# Altium footprint library SHEET23.PcbLib: 47 footprints (part 1 of 3)
Each footprint in its own frame and in the unit in brackets; x right, y up, seen from the top. Pads: shape width x height; smd on the part's side, far side on the other; paste and mask are expansions set on the pad; w line width, h text height; cw(c..) or ccw(c..) is an arc to the next point about the centre after c.
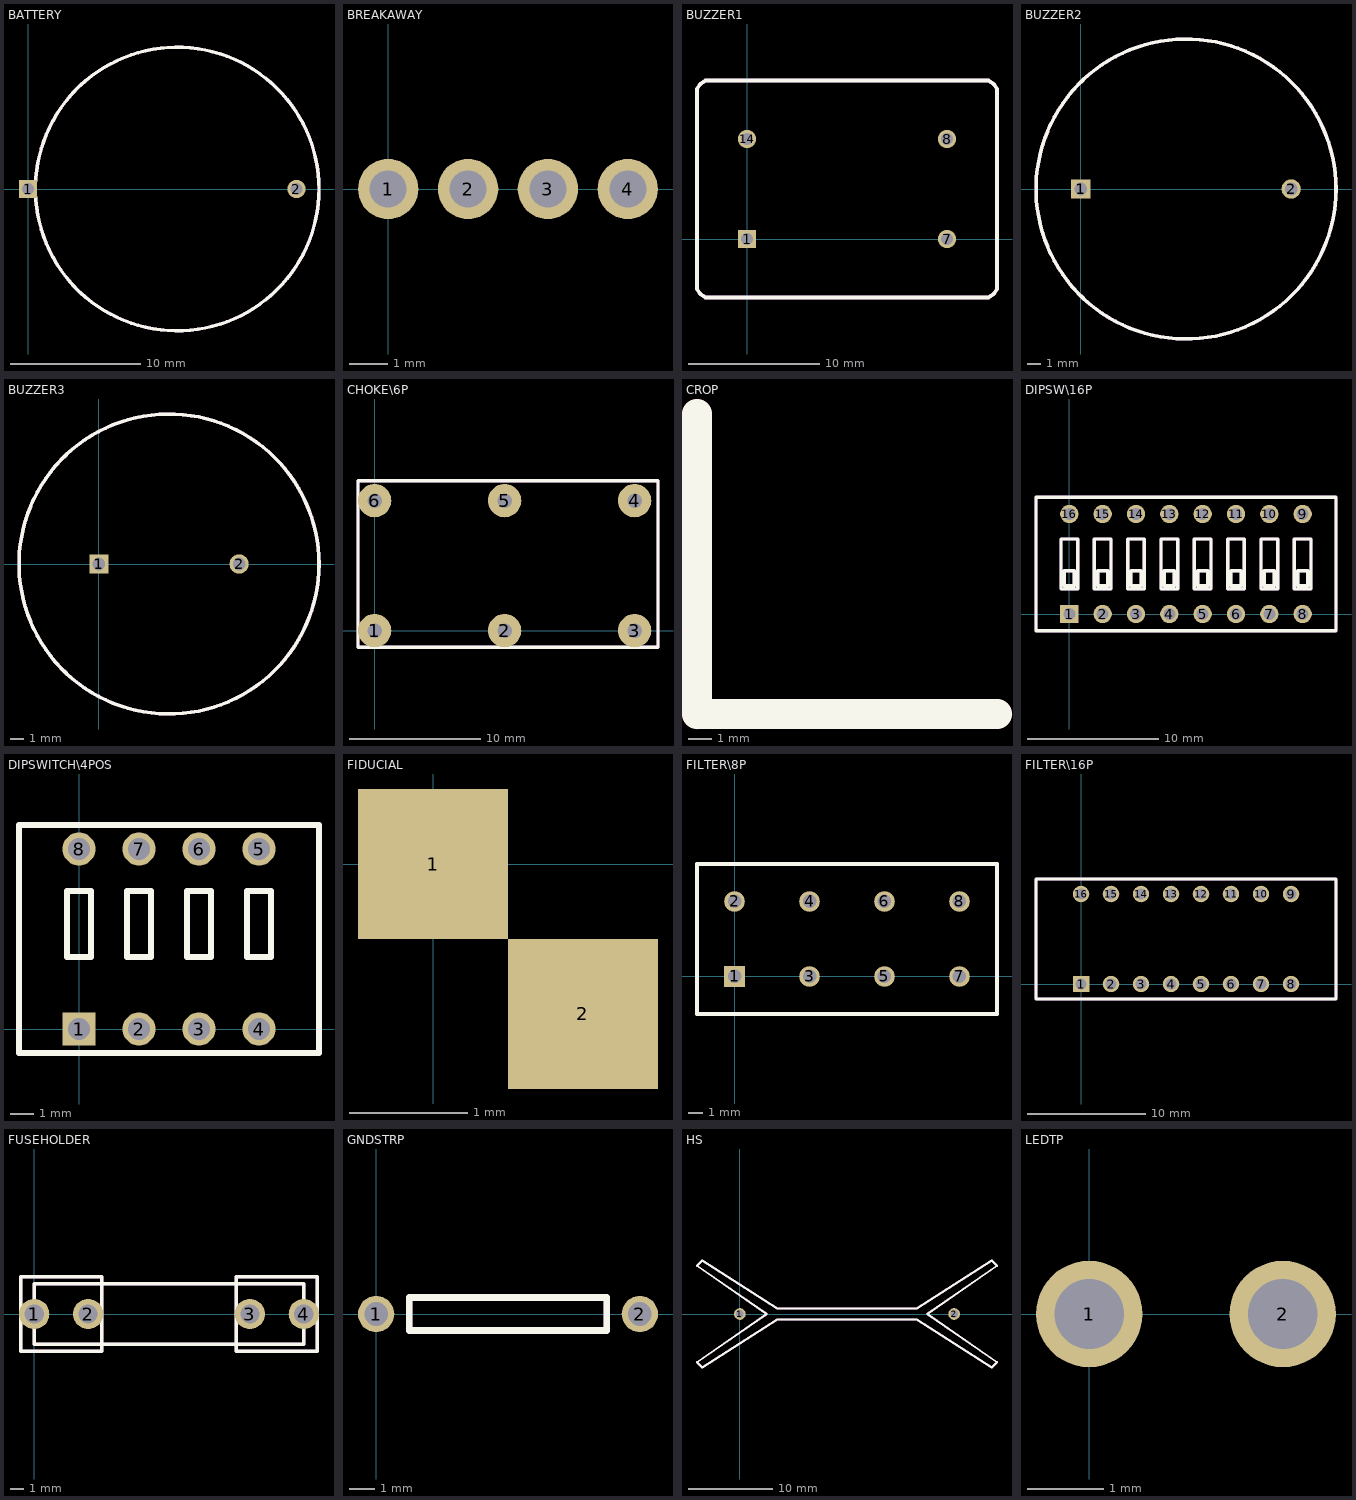
[diagram p0: the footprints below, top view; thin cyan lines are the x and y axes]

## BATTERY [mil]
pads (2):
  rect 55x55 / inner round 55 / far side round 55 hole 36: 1(0,0)
  round 55 hole 36: 2(810,0)
Top Overlay:
  circle w10: c450,0 r427.93
  text ".Designator" at -250,-150 h60
Mechanical 1:
  circle w10: c450,0 r427.93
  text ".Designator" at -225,75 h60
  text ".Pattern" at 0,-550 h60

## BREAKAWAY [mil]
pads (4):
  round 62 hole 38: 1(0,0) 2(82,0) 3(164,0) 4(246,0)
Top Overlay:
  text ".Designator" at -125,75 h60
Mechanical 1:
  text ".Designator" at -125,75 h60
  text ".Pattern" at 0,-200 h60

## BUZZER1 [mil]
pads (4):
  rect 55x55 / inner round 55 / far side round 55 hole 36: 1(0,0)
  round 55 hole 36: 7(600,0) 8(600,300) 14(0,300)
Top Overlay:
  lines w12: -150,-150 -140,-165 -125,-175 725,-175 740,-165 750,-150 750,450 740,465 725,475 -125,475 -140,465 -150,450 -150,-150
  text ".Designator" at -100,200 h60
Mechanical 1:
  lines w12: -150,-150 -150,450 -140,465 -125,475 725,475 740,465 750,450 750,-150 740,-165 725,-175 -125,-175 -140,-165 -150,-150
  text ".Designator" at -100,200 h60
  text ".Pattern" at 0,-300 h60

## BUZZER2 [mil]
pads (2):
  rect 55x55 / inner round 55 / far side round 55 hole 36: 1(0,0)
  round 55 hole 36: 2(600,0)
Top Overlay:
  circle w10: c300,0 r427.93
  text ".Designator" at -250,-150 h60
Mechanical 1:
  circle w10: c300,0 r427.93
  text ".Pattern" at 0,-550 h60
  text ".Designator" at -325,650 h60

## BUZZER3 [mil]
pads (2):
  rect 55x55 / inner round 55 / far side round 55 hole 36: 1(0,0)
  round 55 hole 36: 2(400,0)
Top Overlay:
  circle w10: c200,0 r427.93
  text ".Designator" at -150,-350 h60
Mechanical 1:
  circle w10: c200,0 r427.93
  text ".Designator" at -125,175 h60
  text ".Pattern" at 0,-550 h60

## CHOKE\6P [mil]
pads (6):
  round 100 hole 43: 1(0,0) 2(390,0) 3(780,0) 4(780,390) 5(390,390) 6(0,390)
Top Overlay:
  lines w10: -50,-50 -50,450 850,450 850,-50 -50,-50
  text ".Designator" at -100,125 h60
Mechanical 1:
  lines w10: -50,-50 -50,450 850,450 850,-50 -50,-50
  text ".Designator" at -100,125 h60
  text ".Pattern" at 0,-200 h60

## CROP [mil]
pads (1):
  round 0 all layers, no hole: 1(0,0)
Top Layer:
  lines w50: 0,500 0,0 500,0
Mid-Layer 1:
  lines w50: 0,500 0,0 500,0
Bottom Layer:
  lines w50: 0,500 0,0 500,0
Top Overlay:
  lines w50: 0,500 0,0 500,0
  text ".Designator" at 200,425 h60
Bottom Overlay:
  lines w50: 0,500 0,0 500,0
Top Paste:
  lines w50: 0,500 0,0 500,0
Bottom Paste:
  lines w50: 0,500 0,0 500,0
Top Solder:
  lines w50: 0,500 0,0 500,0
Bottom Solder:
  lines w50: 0,500 0,0 500,0
Internal Plane 1:
  lines w50: 0,500 0,0 500,0
Drill Guide:
  text ".Pattern" at 0,575 h60
Mechanical 1:
  text ".Designator" at 75,150 h60

## DIPSW\16P [mil]
pads (16):
  rect 55x55 / inner round 55 / far side round 55 hole 36: 1(0,0)
  round 55 hole 36: 2(100,0) 3(200,0) 4(300,0) 5(400,0) 6(500,0) 7(600,0) 8(700,0) 9(700,300) 10(600,300) 11(500,300) 12(400,300) 13(300,300) 14(200,300) 15(100,300) 16(0,300)
Top Overlay:
  lines w10: -100,-50 800,-50 800,350 -100,350 -100,-50 ; -25,75 -25,225 25,225 25,75 -25,75 ; -15,85 -15,130 15,130 15,85 -15,85 ; 75,75 75,225 125,225 125,75 75,75 ; 85,85 85,130 115,130 115,85 85,85 ; 175,75 175,225 225,225 225,75 175,75 ; 185,85 185,130 215,130 215,85 185,85 ; 275,75 325,75 325,225 275,225 275,75 ; 285,85 315,85 315,130 285,130 285,85 ; 375,75 375,225 425,225 425,75 375,75 ; 385,85 385,130 415,130 415,85 385,85 ; 475,75 525,75 525,225 475,225 475,75 ; 485,85 485,130 515,130 515,85 485,85 ; 575,75 625,75 625,225 575,225 575,75 ; 585,85 615,85 615,130 585,130 585,85 ; 675,75 725,75 725,225 675,225 675,75 ; 685,85 715,85 715,130 685,130 685,85
  text ".Designator" at -250,-175 h60
Mechanical 1:
  lines w10: -15,85 -15,130 ; -15,85 15,85 ; -15,85 -15,130 ; -15,85 15,85 ; -15,130 15,130 ; -15,130 15,130 ; 15,85 15,130 ; 15,85 15,130 ; -100,-50 -100,350 800,350 800,-50 -100,-50 ; -25,75 -25,225 25,225 25,75 -25,75 ; 75,75 75,225 125,225 125,75 75,75 ; 85,85 85,130 115,130 115,85 85,85 ; 175,75 175,225 225,225 225,75 175,75 ; 185,85 185,130 215,130 215,85 185,85 ; 275,75 275,225 325,225 325,75 275,75 ; 285,85 285,130 315,130 315,85 285,85 ; 375,75 375,225 425,225 425,75 375,75 ; 385,85 385,130 415,130 415,85 385,85 ; 475,75 475,225 525,225 525,75 475,75 ; 485,85 485,130 515,130 515,85 485,85 ; 575,75 575,225 625,225 625,75 575,75 ; 585,85 585,130 615,130 615,85 585,85 ; 675,75 675,225 725,225 725,75 675,75 ; 685,85 685,130 715,130 715,85 685,85
  text ".Designator" at -250,25 h60
  text ".Pattern" at 0,-200 h60

## DIPSWITCH\4POS [mil]
pads (8):
  rect 55x55 / inner round 55 / far side round 55 hole 36: 1(0,0)
  round 55 hole 36: 2(100,0) 3(200,0) 4(300,0) 5(300,300) 6(200,300) 7(100,300) 8(0,300)
Top Overlay:
  lines w10: -100,-40 -100,340 400,340 400,-40 -100,-40 ; -20,120 20,120 20,230 -20,230 -20,120 ; 80,120 120,120 120,230 80,230 80,120 ; 180,120 220,120 220,230 180,230 180,120 ; 280,120 320,120 320,230 280,230 280,120
  text ".Designator" at -250,-175 h60
Mechanical 1:
  lines w10: -100,-40 -100,340 400,340 400,-40 -100,-40 ; -20,120 -20,230 20,230 20,120 -20,120 ; 80,120 80,230 120,230 120,120 80,120 ; 180,120 180,230 220,230 220,120 180,120 ; 280,120 280,230 320,230 320,120 280,120
  text ".Designator" at -250,250 h60
  text ".Pattern" at 0,-175 h60

## FIDUCIAL [mil]
pads (2):
  rect 50x50 / inner round 60 / far side rect 50x50 all layers, no hole: 1(0,0) 2(50,-50)
Top Overlay:
  text ".Designator" at 0,100 h60
Mechanical 1:
  text ".Designator" at 0,100 h60
  text ".Pattern" at -100,-200 h60

## FILTER\8P [mil]
pads (8):
  rect 55x55 / inner round 55 / far side round 55 hole 36: 1(0,0)
  round 55 hole 36: 2(0,200) 3(200,0) 4(200,200) 5(400,0) 6(400,200) 7(600,0) 8(600,200)
Top Overlay:
  lines w10: -100,-100 700,-100 700,300 -100,300 -100,-100
  text ".Designator" at -25,50 h60
Mechanical 1:
  lines w10: -100,-100 -100,300 700,300 700,-100 -100,-100
  text ".Designator" at -25,50 h60
  text ".Pattern" at 0,-225 h60

## FILTER\16P [mil]
pads (16):
  rect 55x55 / inner round 55 / far side round 55 hole 36: 1(0,0)
  round 55 hole 36: 2(100,0) 3(200,0) 4(300,0) 5(400,0) 6(500,0) 7(600,0) 8(700,0) 9(700,300) 10(600,300) 11(500,300) 12(400,300) 13(300,300) 14(200,300) 15(100,300) 16(0,300)
Top Overlay:
  lines w10: -150,-50 850,-50 850,350 -150,350 -150,-50
  text ".Designator" at -75,75 h60
Mechanical 1:
  lines w10: -150,-50 850,-50 850,350 -150,350 -150,-50
  text ".Pattern" at 0,-225 h60
  text ".Designator" at -75,75 h60

## FUSEHOLDER [mil]
pads (4):
  round 90 hole 57: 1(0,0) 2(160,0) 3(640,0) 4(800,0)
Top Overlay:
  lines w10: -40,-110 -40,110 200,110 200,-110 -40,-110 ; 0,-90 800,-90 800,90 0,90 0,-90 ; 600,-110 840,-110 840,110 600,110 600,-110
  text ".Designator" at -50,50 h60
Mechanical 1:
  lines w10: -40,-110 -40,110 200,110 200,-110 -40,-110 ; 0,-90 800,-90 800,90 0,90 0,-90 ; 600,-110 600,110 840,110 840,-110 600,-110
  text ".Designator" at -50,50 h60
  text ".Pattern" at 0,-250 h60

## GNDSTRP [mil]
pads (2):
  round 55 hole 36: 1(0,0) 2(400,0)
Top Overlay:
  lines w10: 50,-25 50,25 350,25 350,-25 50,-25
  text ".Designator" at -125,75 h60
Mechanical 1:
  lines w10: 50,-25 50,25 350,25 350,-25 50,-25
  text ".Designator" at -125,75 h60
  text ".Pattern" at 0,-200 h60

## HS [mil]
pads (2):
  round 55 hole 36: 1(0,0) 2(1000,0)
Top Overlay:
  lines w10: -200,-225 125,0 -200,225 -175,250 175,25 825,25 1175,250 1200,225 875,0 1200,-225 1175,-250 825,-25 175,-25 -175,-250 -200,-225
  text ".Designator" at -100,75 h60
Mechanical 1:
  lines w10: -200,-225 125,0 -200,225 -175,250 175,25 825,25 1175,250 1200,225 875,0 1200,-225 1175,-250 825,-25 175,-25 -175,-250 -200,-225
  text ".Designator" at -100,75 h60
  text ".Pattern" at 0,-375 h60

## LEDTP [mil]
pads (2):
  round 55 hole 36: 1(0,0) 2(100,0)
Top Overlay:
  text ".Designator" at 225,150 h60
Mechanical 1:
  text ".Designator" at 250,-50 h60
  text ".Pattern" at -75,-200 h60